# EAGLE library part 74*832 (library 74ttl-din)
Hex OR driver
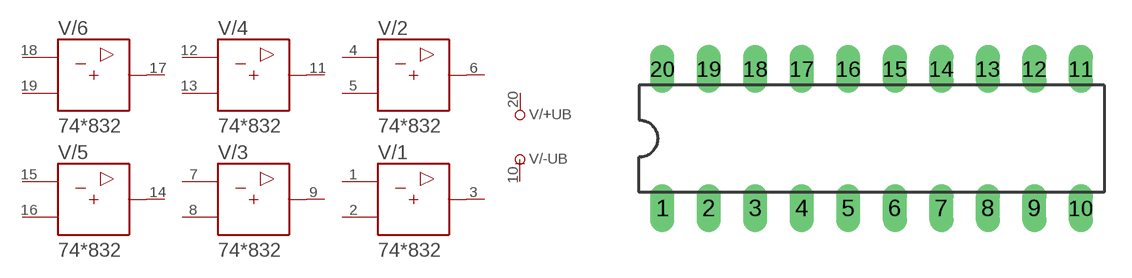
[diagram p24: symbol with the pads of DIL20; footprint DIL20]

Designator prefix V; gates /+UB=+UB /-UB=-UB /1=832 /2=832 /3=832 /4=832 /5=832 /6=832

## 74832N  [DIL20]
1  /1:A  in
2  /1:B  in
3  /1:Y  out
4  /2:A  in
5  /2:B  in
6  /2:Y  out
7  /3:A  in
8  /3:B  in
9  /3:Y  out
10  /-UB:-UB  pwr
11  /4:Y  out
12  /4:A  in
13  /4:B  in
14  /5:Y  out
15  /5:A  in
16  /5:B  in
17  /6:Y  out
18  /6:A  in
19  /6:B  in
20  /+UB:+UB  pwr

## Footprint DIL20 (pad centres in mm)
Dual In Line Package
drill 0.813 long: 1 -11.43,-3.81; 2 -8.89,-3.81; 3 -6.35,-3.81; 4 -3.81,-3.81; 5 -1.27,-3.81; 6 1.27,-3.81; 7 3.81,-3.81; 8 6.35,-3.81; 9 8.89,-3.81; 10 11.43,-3.81; 11 11.43,3.81; 12 8.89,3.81; 13 6.35,3.81; 14 3.81,3.81; 15 1.27,3.81; 16 -1.27,3.81; 17 -3.81,3.81; 18 -6.35,3.81; 19 -8.89,3.81; 20 -11.43,3.81